# EAGLE library part LOGIC,SWITCH,16CHANNEL (library QuantumOptics)
Freescale 33996, 16 channel switch SPI, ~0.8A, SOIC32-W-EP.
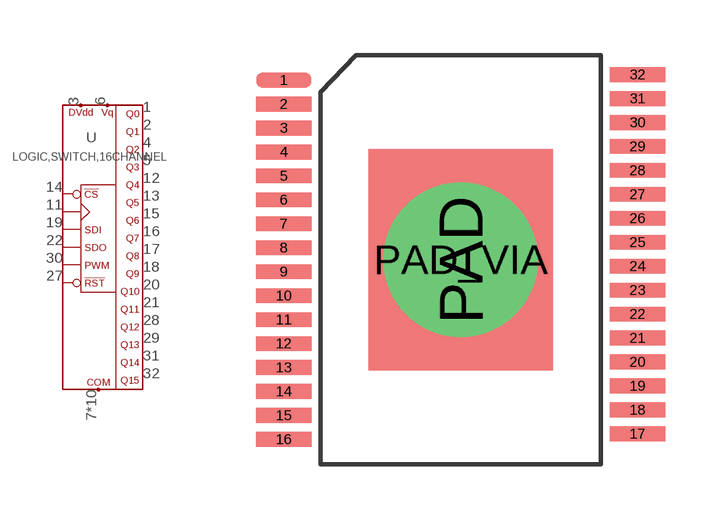
[diagram p204: symbol with the pads of SOIC32W-EP; footprint SOIC32W-EP]

Designator prefix U

## LOGIC,SWITCH,16CHANNEL-SOIC32W-EP  [SOIC32W-EP]
1  Q0  out
2  Q1  out
3  DVDD
4  Q2  out
5  Q3  out
6  VPWR
7  COM
8  COM
9  COM
10  COM
11  SCLK  in
12  Q4  out
13  Q5  out
14  !CS  in
15  Q6  out
16  Q7  out
17  Q8  out
18  Q9  out
19  SI  in
20  Q10  out
21  Q11  out
22  SO  out
23  COM
24  COM
25  COM
26  COM
27  !RST  in
28  Q12  out
29  Q13  out
30  PWM  in
31  Q14  out
32  Q15  out
PAD  COM
PAD_VIA  COM

## Footprint SOIC32W-EP (pad centres in mm)
SOIC-32W with EPad, based on Freescale MC33996.
smd 1.5 x 0.4: 1 -4.8,4.875; 2 -4.8,4.225; 3 -4.8,3.575; 4 -4.8,2.925; 5 -4.8,2.275; 6 -4.8,1.625; 7 -4.8,0.975; 8 -4.8,0.325; 9 -4.8,-0.325; 10 -4.8,-0.975; 11 -4.8,-1.625; 12 -4.8,-2.275; 13 -4.8,-2.925; 14 -4.8,-3.575; 15 -4.8,-4.225; 16 -4.8,-4.875; 17 4.8,-4.725; 18 4.8,-4.075; 19 4.8,-3.425; 20 4.8,-2.775; 21 4.8,-2.125; 22 4.8,-1.475; 23 4.8,-0.825; 24 4.8,-0.175; 25 4.8,0.475; 26 4.8,1.125; 27 4.8,1.775; 28 4.8,2.425; 29 4.8,3.075; 30 4.8,3.725; 31 4.8,4.375; 32 4.8,5.025
smd 5 x 6: PAD 0,0
drill 3.175: PAD_VIA 0,0